# Altium footprint library Wago 254.PcbLib: 3 footprints
Each footprint in its own frame and in the unit in brackets; x right, y up, seen from the top. Pads: shape width x height; smd on the part's side, far side on the other; paste and mask are expansions set on the pad; w line width, h text height; cw(c..) or ccw(c..) is an arc to the next point about the centre after c.
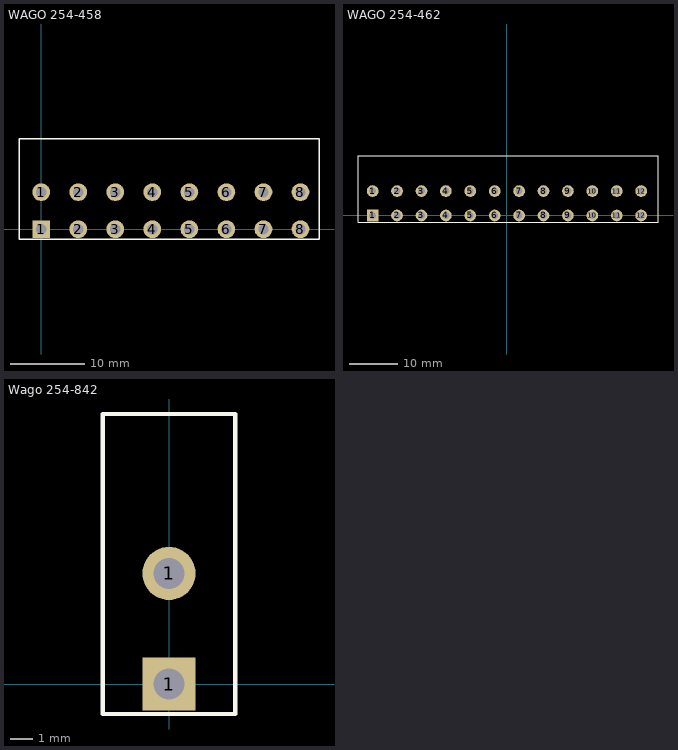
[diagram p0: the footprints below, top view; thin cyan lines are the x and y axes]

## WAGO 254-458 [mm]
pads (16):
  rect 2.4x2.4 hole 1.4: 1(0,0)
  round 2.4 hole 1.4: 1(0,5) 2(5,0) 2(5,5) 3(10,0) 3(10,5) 4(15,0) 4(15,5) 5(20,0) 5(20,5) 6(25,0) 6(25,5) 7(30,0) 7(30,5) 8(35,0) 8(35,5)
Top Overlay:
  lines w0.2: -3,-1.35 -3,12.2 37.5,12.2 37.5,-1.35 -3,-1.35
3D body: height 16.4, standoff -4, extent -3,-1.4 18.5,12.12

## WAGO 254-462 [mm]
pads (24):
  rect 2.4x2.4 hole 1.4: 1(-27.5,0)
  round 2.4 hole 1.4: 1(-27.5,5) 2(-22.5,0) 2(-22.5,5) 3(-17.5,0) 3(-17.5,5) 4(-12.5,0) 4(-12.5,5) 5(-7.5,0) 5(-7.5,5) 6(-2.5,0) 6(-2.5,5) 7(2.5,0) 7(2.5,5) 8(7.5,0) 8(7.5,5) 9(12.5,0) 9(12.5,5) 10(17.5,0) 10(17.5,5) 11(22.5,0) 11(22.5,5) 12(27.5,0) 12(27.5,5)
Top Overlay:
  lines w0.2: -30.5,-1.35 30.95,-1.35 30.95,12.2 -30.5,12.2 -30.5,-1.35
3D body: height 16.4, standoff -4, extent -30.5,-1.4 -9,12.12

## Wago 254-842 [mm]
pads (2):
  rect 2.4x2.4 hole 1.4: 1(0,0)
  round 2.4 hole 1.4: 1(0,5)
Top Overlay:
  lines w0.2: -3,-1.35 3,-1.35 3,12.2 -3,12.2 -3,-1.35
3D body: height 16.4, standoff -4, extent -3,-1.4 18.5,12.12